# EAGLE library part ATMEGA644A (library hybridpi)
8-BIT 20MHz MCU Atmel 32 I/O Datasheet: ATMEGAXX(X)4A(P) <http://www.atmel.com/Images/doc8272.pdf>
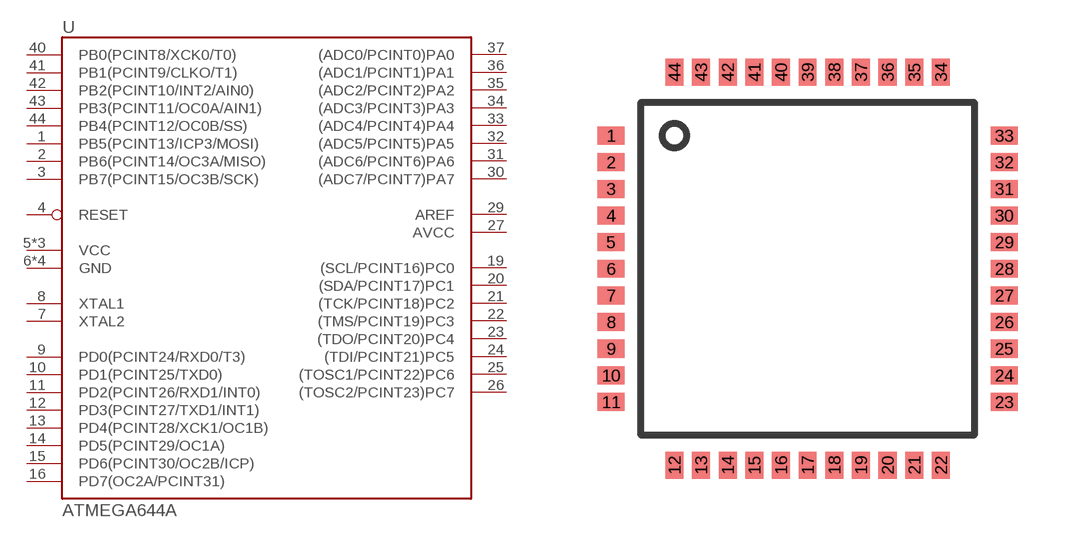
[diagram p2: symbol with the pads of TQFP-44; footprint TQFP-44]

Designator prefix U

## ATMEGA644A-AU (EAGLEUP: TQFP-44)  [TQFP-44]
1  PB5(PCINT13/ICP3/MOSI)
2  PB6(PCINT14/OC3A/MISO)
3  PB7(PCINT15/OC3B/SCK)
4  RESET  in
5  VCC  pwr
6  GND  pwr
7  XTAL2  out
8  XTAL1  out
9  PD0(PCINT24/RXD0/T3)
10  PD1(PCINT25/TXD0)
11  PD2(PCINT26/RXD1/INT0)
12  PD3(PCINT27/TXD1/INT1)
13  PD4(PCINT28/XCK1/OC1B)
14  PD5(PCINT29/OC1A)
15  PD6(PCINT30/OC2B/ICP)
16  PD7(OC2A/PCINT31)
17  VCC  pwr
18  GND  pwr
19  (SCL/PCINT16)PC0
20  (SDA/PCINT17)PC1
21  (TCK/PCINT18)PC2
22  (TMS/PCINT19)PC3
23  (TDO/PCINT20)PC4
24  (TDI/PCINT21)PC5
25  (TOSC1/PCINT22)PC6
26  (TOSC2/PCINT23)PC7
27  AVCC  pwr
28  GND  pwr
29  AREF  pwr
30  (ADC7/PCINT7)PA7
31  (ADC6/PCINT6)PA6
32  (ADC5/PCINT5)PA5
33  (ADC4/PCINT4)PA4
34  (ADC3/PCINT3)PA3
35  (ADC2/PCINT2)PA2
36  (ADC1/PCINT1)PA1
37  (ADC0/PCINT0)PA0
38  VCC  pwr
39  GND  pwr
40  PB0(PCINT8/XCK0/T0)
41  PB1(PCINT9/CLKO/T1)
42  PB2(PCINT10/INT2/AIN0)
43  PB3(PCINT11/OC0A/AIN1)
44  PB4(PCINT12/OC0B/SS)

## Footprint TQFP-44 (pad centres in mm)
smd 0.8 x 0.54: 1 -5.9,4; 2 -5.9,3.2; 3 -5.9,2.4; 4 -5.9,1.6; 5 -5.9,0.8; 6 -5.9,0; 7 -5.9,-0.8; 8 -5.9,-1.6; 9 -5.9,-2.4; 10 -5.9,-3.2; 11 -5.9,-4; 23 5.9,-4; 24 5.9,-3.2; 25 5.9,-2.4; 26 5.9,-1.6; 27 5.9,-0.8; 28 5.9,0; 29 5.9,0.8; 30 5.9,1.6; 31 5.9,2.4; 32 5.9,3.2; 33 5.9,4
smd 0.54 x 0.8: 12 -4,-5.9; 13 -3.2,-5.9; 14 -2.4,-5.9; 15 -1.6,-5.9; 16 -0.8,-5.9; 17 0,-5.9; 18 0.8,-5.9; 19 1.6,-5.9; 20 2.4,-5.9; 21 3.2,-5.9; 22 4,-5.9; 34 4,5.9; 35 3.2,5.9; 36 2.4,5.9; 37 1.6,5.9; 38 0.8,5.9; 39 0,5.9; 40 -0.8,5.9; 41 -1.6,5.9; 42 -2.4,5.9; 43 -3.2,5.9; 44 -4,5.9